# EAGLE library part DISPLAY_128128_144 (library dawidkulpa_modules)
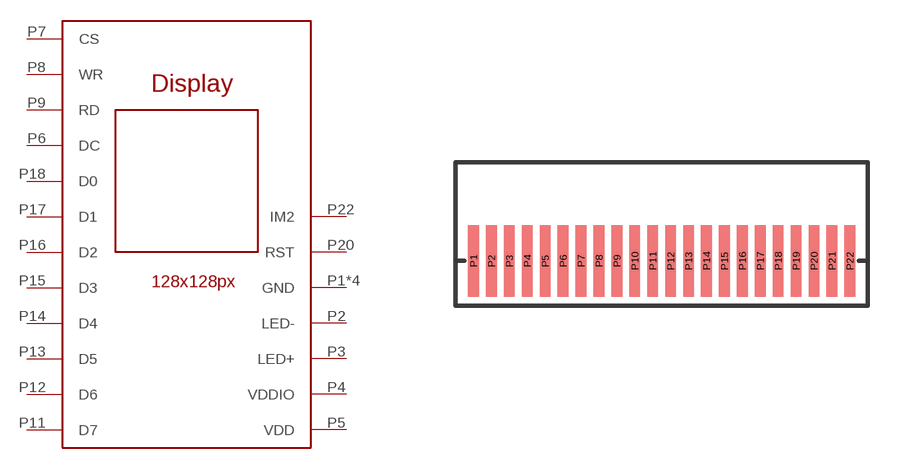
[diagram p1: symbol with the pads of FPC22; footprint FPC22]

Designator prefix -

## DISPLAY_128128_144  [FPC22]
P1  GND
P2  LED-
P3  LED+
P4  VDDIO
P5  VDD
P6  DC
P7  CS
P8  WR
P9  RD
P10  GND
P11  D7
P12  D6
P13  D5
P14  D4
P15  D3
P16  D2
P17  D1
P18  D0
P19  GND
P20  RST
P21  GND
P22  IM2

## Footprint FPC22 (pad centres in mm)
smd 0.3 x 2: P1 -5.25,-0.75; P2 -4.75,-0.75; P3 -4.25,-0.75; P4 -3.75,-0.75; P5 -3.25,-0.75; P6 -2.75,-0.75; P7 -2.25,-0.75; P8 -1.75,-0.75; P9 -1.25,-0.75; P10 -0.75,-0.75; P11 -0.25,-0.75; P12 0.25,-0.75; P13 0.75,-0.75; P14 1.25,-0.75; P15 1.75,-0.75; P16 2.25,-0.75; P17 2.75,-0.75; P18 3.25,-0.75; P19 3.75,-0.75; P20 4.25,-0.75; P21 4.75,-0.75; P22 5.25,-0.75